# Altium schematic symbol library COMPARATOR.SchLib: 1 symbol
Pins are listed as number, name and electrical type; pins without a type are passive.

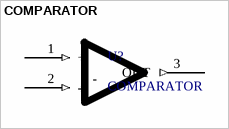
[diagram p0: symbol COMPARATOR]

## COMPARATOR
designator U?
Comparator symbol
pins: 1 + (in), 2 - (in), 3 OUT (out)